# EAGLE library part GPS-FASTRAX-UP501 (library SteveMarple)
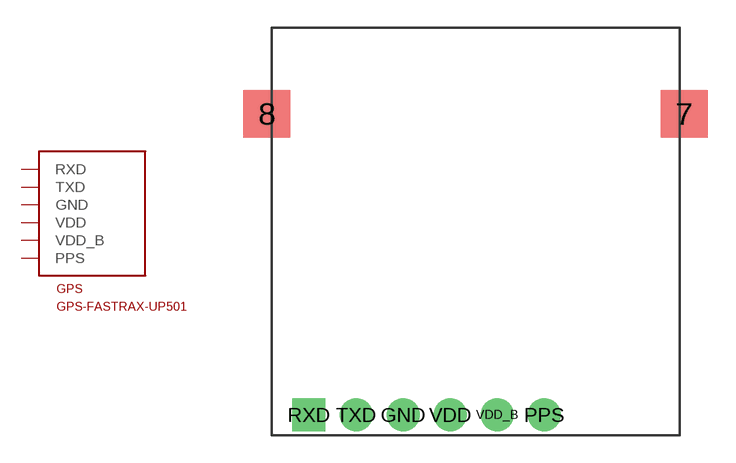
[diagram p23: symbol with the pads of GPS-FASTRAX-UP501; footprint GPS-FASTRAX-UP501]

Designator prefix GPS

## GPS-FASTRAX-UP501  [GPS-FASTRAX-UP501]
GND  GND  pwr
PPS  PPS
RXD  RXD  in
TXD  TXD  out
VDD  VDD  pwr
VDD_B  VDD_B  pwr

## Footprint GPS-FASTRAX-UP501 (pad centres in mm)
Fastrax UP-501 GPS module
smd 2.54 x 2.54: 7 20.24,16.25; 8 -2.27,16.25
drill 1 pad 1.778: GND 5.08,0; PPS 12.7,0; TXD 2.54,0; VDD 7.62,0; VDD_B 10.16,0
drill 1 pad 1.778 square: RXD 0,0